# EAGLE library part SM06 (library sapog_reference_hardware)
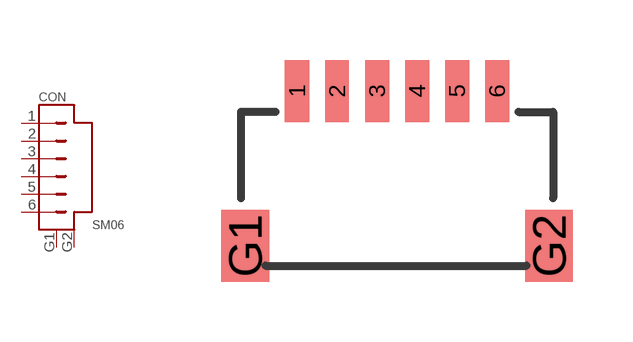
[diagram p5: symbol with the pads of SH06B; footprint SH06B]

Designator prefix CON

## SM06 (DIGIKEY#: 455-1806-1-ND; MANF#: SM06B-SRSS-TB(LF)(SN))  [SH06B]
1  1  pas
2  2  pas
3  3  pas
4  4  pas
5  5  pas
6  6  pas
G1  G1  pas
G2  G2  pas

## Footprint SH06B (pad centres in mm)
smd 0.6 x 1.55: 1 1.9,4.775; 2 2.9,4.775; 3 3.9,4.775; 4 4.9,4.775; 5 5.9,4.775; 6 6.9,4.775
smd 1.2 x 1.8: G1 0.6,0.9; G2 8.2,0.9